# Altium footprint library cricket-node-hw__B.PcbLib: 47 footprints (part 2 of 3)
Each footprint in its own frame and in the unit in brackets; x right, y up, seen from the top. Pads: shape width x height; smd on the part's side, far side on the other; paste and mask are expansions set on the pad; w line width, h text height; cw(c..) or ccw(c..) is an arc to the next point about the centre after c.
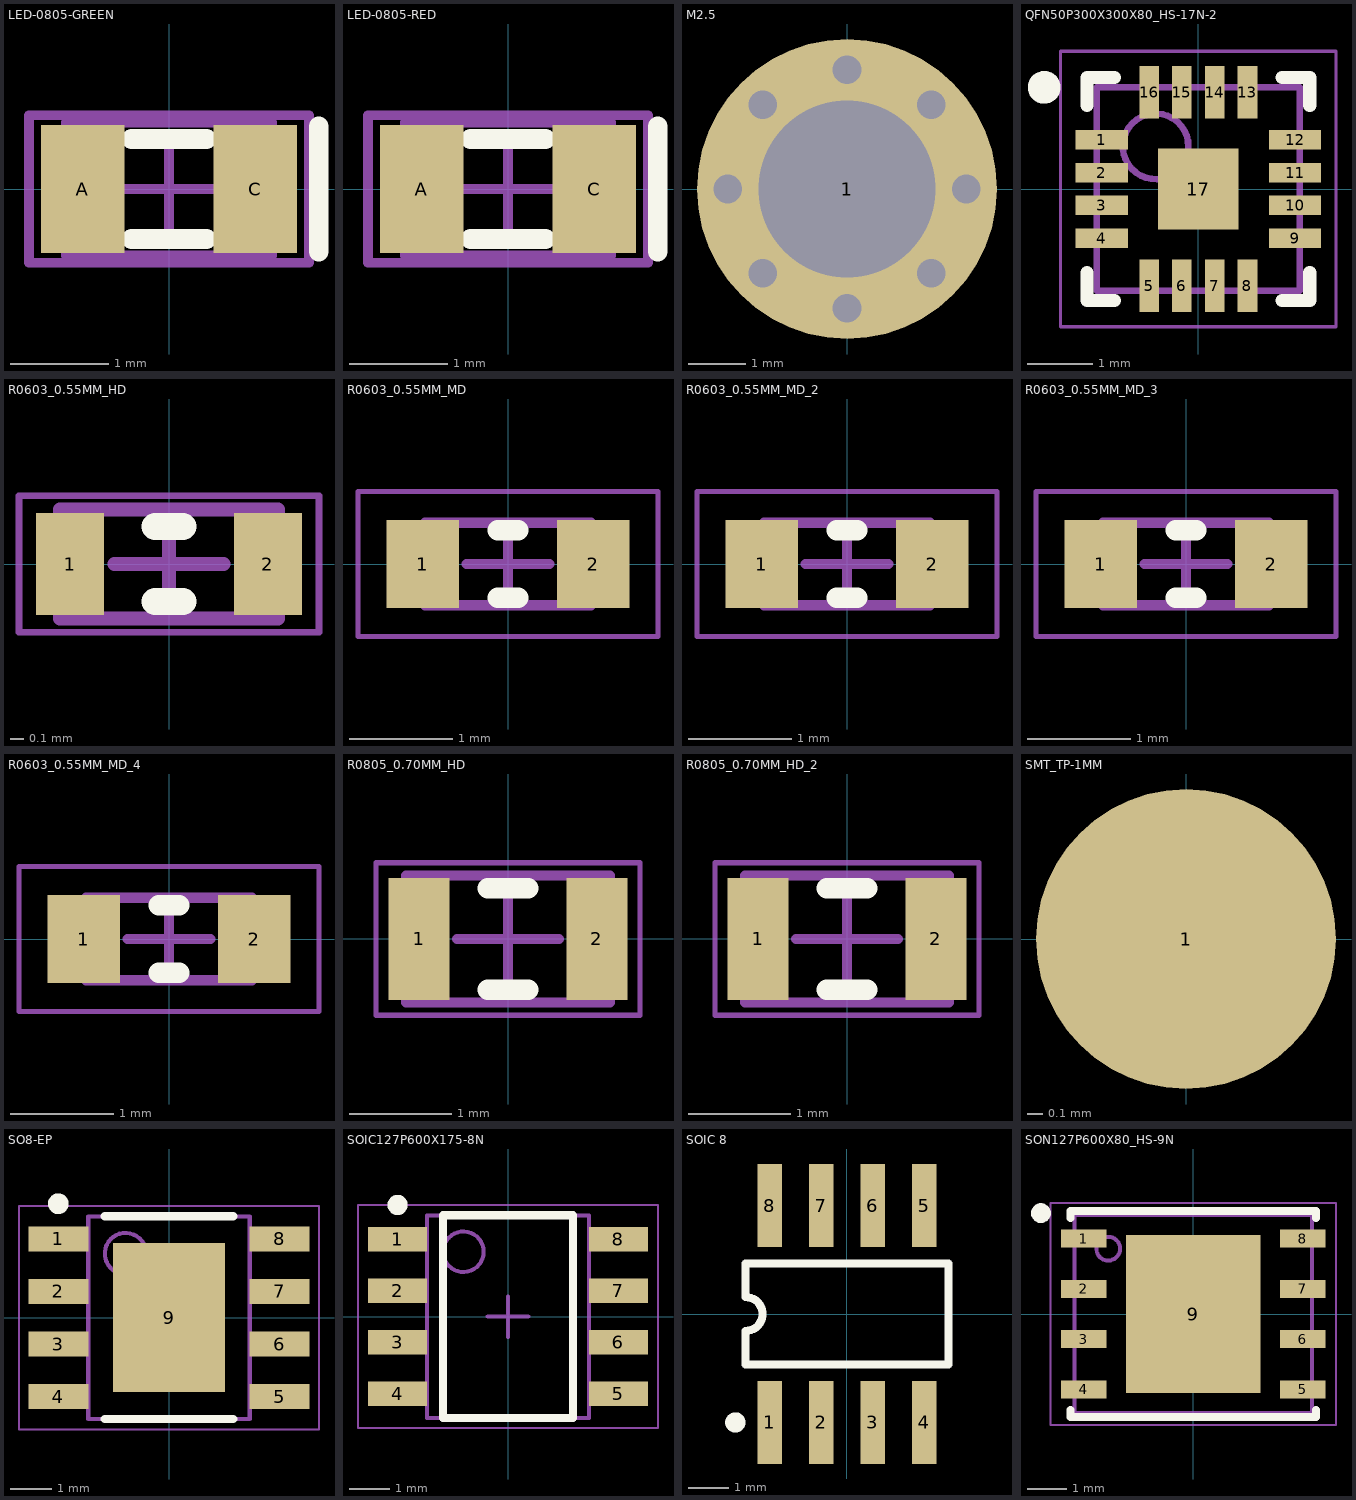
[diagram p1: the footprints below, top view; thin cyan lines are the x and y axes]

## LED-0805-GREEN [mm] "LED_0805"
height 1.1
pads (2):
  rect 0.85x1.3 smd: A(-0.875,0) C(0.875,0)
Top Overlay:
  lines w0.2: -0.381,-0.508 0.381,-0.508 ; -0.381,0.508 0.381,0.508 ; 1.524,-0.635 1.524,0.635
Mechanical 13:
  lines w0.1: -1.05,-0.675 1.05,-0.675 1.05,0.675 -1.05,0.675 -1.05,-0.675
Mechanical 15:
  lines w0.1: -0.5,0 0.5,0 ; 0,-0.5 0,0.5 ; -1.425,-0.75 1.425,-0.75 1.425,0.75 -1.425,0.75 -1.425,-0.75
3D body: height 0.75, standoff 0.25, extent -0.599,-0.624 0.599,0.624
3D body: height 0.26, standoff 0, extent 0.751,-0.624 0.999,0.624
3D body: height 0.26, standoff 0, extent -0.999,-0.624 -0.751,0.624
3D body: height 0.25, standoff 0, extent -0.75,-0.624 0.75,0.624

## LED-0805-RED [mm] "LED_0805"
height 1.1
pads (2):
  rect 0.85x1.3 smd: A(-0.875,0) C(0.875,0)
Top Overlay:
  lines w0.2: -0.381,-0.508 0.381,-0.508 ; -0.381,0.508 0.381,0.508 ; 1.524,-0.635 1.524,0.635
Mechanical 13:
  lines w0.1: -1.05,-0.675 1.05,-0.675 1.05,0.675 -1.05,0.675 -1.05,-0.675
Mechanical 15:
  lines w0.1: -0.5,0 0.5,0 ; 0,-0.5 0,0.5 ; -1.425,-0.75 1.425,-0.75 1.425,0.75 -1.425,0.75 -1.425,-0.75
3D body: height 0.75, standoff 0.25, extent -0.599,-0.624 0.599,0.624
3D body: height 0.26, standoff 0, extent 0.751,-0.624 0.999,0.624
3D body: height 0.26, standoff 0, extent -0.999,-0.624 -0.751,0.624
3D body: height 0.25, standoff 0, extent -0.75,-0.624 0.75,0.624

## M2.5 [mm]
height 1.6
pads (9):
  round 0 hole 0.5: 1(-2.087,0) 1(-1.476,-1.476) 1(-1.476,1.476) 1(0,-2.087) 1(0,2.087) 1(1.476,-1.476) 1(1.476,1.476) 1(2.087,0)
  round 5.25 hole 3.1: 1(0,0)

## QFN50P300X300X80_HS-17N-2 [mm] "QFN, 16-Leads, Body 3.00x3.00mm, Pitch 0.50mm, Thermal Pad 1.23x1.23mm, IPC Medium Density"
height 0.8
pads (17):
  rect 0.8x0.3 smd mask+0.05: 1(-1.475,0.75) 2(-1.475,0.25) 3(-1.475,-0.25) 4(-1.475,-0.75) 9(1.475,-0.75) 10(1.475,-0.25) 11(1.475,0.25) 12(1.475,0.75)
  rect 0.3x0.8 smd mask+0.05: 5(-0.75,-1.475) 6(-0.25,-1.475) 7(0.25,-1.475) 8(0.75,-1.475) 13(0.75,1.475) 14(0.25,1.475) 15(-0.25,1.475) 16(-0.75,1.475)
  rect 1.23x1.23 smd: 17(0,0)
Top Overlay:
  circle w0.25: c-2.35,1.55 r0.125
  lines w0.2: -1.7,-1.275 -1.7,-1.7 -1.275,-1.7 ; -1.7,1.275 -1.7,1.7 -1.275,1.7 ; 1.275,-1.7 1.7,-1.7 1.7,-1.275 ; 1.275,1.7 1.7,1.7 1.7,1.275
Top Courtyard:
  lines w0.05: -2.1,-2.1 -2.1,2.1 2.1,2.1 2.1,-2.1 -2.1,-2.1
  lines w0.1: -0.5,0 0.5,0 ; 0,-0.5 0,0.5
Top Assembly:
  circle w0.1: c-0.65,0.65 r0.5
  lines w0.1: -1.55,-1.55 -1.55,1.55 1.55,1.55 1.55,-1.55 -1.55,-1.55
3D body "QFN50P300X300X80_HS-17N-2.step": height 0.8, standoff 0, extent -1.56,-1.56 1.56,1.56

## R0603_0.55MM_HD [mm] "Resistor 0603 High Density"
height 0.55
pads (2):
  rect 0.5x0.75 smd: 1(-0.725,0) 2(0.725,0)
Top Overlay:
  lines w0.2: -0.1,-0.275 0.1,-0.275 ; -0.1,0.275 0.1,0.275
Mechanical 13:
  lines w0.1: -0.8,-0.4 -0.8,0.4 0.8,0.4 0.8,-0.4 -0.8,-0.4
Mechanical 15:
  lines w0.05: -1.1,-0.5 -1.1,0.5 1.1,0.5 1.1,-0.5 -1.1,-0.5
  lines w0.1: -0.4,0 0.4,0 ; 0,-0.4 0,0.4
3D body "RESC1608X06L.step": height 0.55, standoff 0, extent -0.8,-0.4 0.8,0.4

## R0603_0.55MM_MD [mm] "Resistor 0603 Medium Density"
height 0.55
pads (2):
  rect 0.7x0.85 smd: 1(-0.825,0) 2(0.825,0)
Top Overlay:
  lines w0.2: -0.1,-0.325 0.1,-0.325 ; -0.1,0.325 0.1,0.325
Mechanical 13:
  lines w0.1: -0.8,-0.4 -0.8,0.4 0.8,0.4 0.8,-0.4 -0.8,-0.4
Mechanical 15:
  lines w0.05: -1.45,-0.7 -1.45,0.7 1.45,0.7 1.45,-0.7 -1.45,-0.7
  lines w0.1: -0.4,0 0.4,0 ; 0,-0.4 0,0.4
3D body "RESC1608X06N.step": height 0.55, standoff 0, extent -0.8,-0.4 0.8,0.4

## R0603_0.55MM_MD_2 [mm]
pads (2):
  rect 0.7x0.85 smd: 1(-0.825,0) 2(0.825,0)
Top Overlay:
  lines w0.2: -0.1,-0.325 0.1,-0.325 ; -0.1,0.325 0.1,0.325
Mechanical 13:
  lines w0.1: -0.8,-0.4 0.8,-0.4 0.8,0.4 -0.8,0.4 -0.8,-0.4
Mechanical 15:
  lines w0.05: -1.45,-0.7 1.45,-0.7 1.45,0.7 -1.45,0.7 -1.45,-0.7
  lines w0.1: -0.4,0 0.4,0 ; 0,-0.4 0,0.4
3D body "RESC1608X06N.step": height 0.55, standoff 0, extent -0.8,-0.4 0.8,0.4

## R0603_0.55MM_MD_3 [mm]
pads (2):
  rect 0.7x0.85 smd: 1(-0.825,0) 2(0.825,0)
Top Overlay:
  lines w0.2: -0.1,-0.325 0.1,-0.325 ; -0.1,0.325 0.1,0.325
Mechanical 13:
  lines w0.1: -0.8,-0.4 -0.8,0.4 0.8,0.4 0.8,-0.4 -0.8,-0.4
Mechanical 15:
  lines w0.05: -1.45,-0.7 -1.45,0.7 1.45,0.7 1.45,-0.7 -1.45,-0.7
  lines w0.1: -0.4,0 0.4,0 ; 0,-0.4 0,0.4
3D body "RESC1608X06N.step": height 0.55, standoff 0, extent -0.8,-0.4 0.8,0.4

## R0603_0.55MM_MD_4 [mm]
pads (2):
  rect 0.7x0.85 smd: 1(-0.825,0) 2(0.825,0)
Top Overlay:
  lines w0.2: -0.1,-0.325 0.1,-0.325 ; -0.1,0.325 0.1,0.325
Mechanical 13:
  lines w0.1: -0.8,-0.4 -0.8,0.4 0.8,0.4 0.8,-0.4 -0.8,-0.4
Mechanical 15:
  lines w0.05: -1.45,-0.7 -1.45,0.7 1.45,0.7 1.45,-0.7 -1.45,-0.7
  lines w0.1: -0.4,0 0.4,0 ; 0,-0.4 0,0.4
3D body "RESC1608X06N.step": height 0.55, standoff 0, extent -0.8,-0.4 0.8,0.4

## R0805_0.70MM_HD [mm] "Resistor 0805 High Density"
height 0.7
pads (2):
  rect 0.6x1.2 smd: 1(-0.875,0) 2(0.875,0)
Top Overlay:
  lines w0.2: -0.2,-0.5 0.2,-0.5 ; -0.2,0.5 0.2,0.5
Mechanical 13:
  lines w0.1: -1,-0.625 -1,0.625 1,0.625 1,-0.625 -1,-0.625
Mechanical 15:
  lines w0.05: -1.3,-0.75 -1.3,0.75 1.3,0.75 1.3,-0.75 -1.3,-0.75
  lines w0.1: -0.5,0 0.5,0 ; 0,-0.5 0,0.5
3D body "RESC2012X07L.step": height 0.7, standoff 0, extent -1,-0.625 1,0.625

## R0805_0.70MM_HD_2 [mm]
pads (2):
  rect 0.6x1.2 smd: 1(-0.875,0) 2(0.875,0)
Top Overlay:
  lines w0.2: -0.2,-0.5 0.2,-0.5 ; -0.2,0.5 0.2,0.5
Mechanical 13:
  lines w0.1: -1,-0.625 -1,0.625 1,0.625 1,-0.625 -1,-0.625
Mechanical 15:
  lines w0.05: -1.3,-0.75 -1.3,0.75 1.3,0.75 1.3,-0.75 -1.3,-0.75
  lines w0.1: -0.5,0 0.5,0 ; 0,-0.5 0,0.5
3D body "RESC2012X07L.step": height 0.7, standoff 0, extent -1,-0.625 1,0.625

## SMT_TP-1MM [mm] "1MM SMT Test pad"
height 1.6
pads (1):
  round 1.905 smd paste-0.254: 1(0,0)

## SO8-EP [mm] "SOIC, 8-Leads, Body 4.80x3.80mm, Pitch 1.27mm, Thermal Pad 3.60x2.70mm, IPC Medium Density"
height 1.65
pads (9):
  rect 1.45x0.6 smd mask+0.05: 1(-2.675,1.905) 2(-2.675,0.635) 3(-2.675,-0.635) 4(-2.675,-1.905) 5(2.675,-1.905) 6(2.675,-0.635) 7(2.675,0.635) 8(2.675,1.905)
  rect 2.7x3.6 smd mask+0.05: 9(0,0)
Top Overlay:
  circle w0.25: c-2.675,2.755 r0.125
  lines w0.2: -1.55,-2.45 1.55,-2.45 ; -1.55,2.45 1.55,2.45
Top Solder:
  region: -1.35,1.8 -1.35,-1.8 1.35,-1.8 1.35,1.8
  region: 1.95,1.605 1.95,2.205 3.4,2.205 3.4,1.605
  region: 1.95,0.335 1.95,0.935 3.4,0.935 3.4,0.335
  region: 1.95,-0.335 1.95,-0.935 3.4,-0.935 3.4,-0.335
  region: 1.95,-1.605 1.95,-2.205 3.4,-2.205 3.4,-1.605
  region: -3.4,-1.605 -3.4,-2.205 -1.95,-2.205 -1.95,-1.605
  region: -3.4,-0.335 -3.4,-0.935 -1.95,-0.935 -1.95,-0.335
  region: -3.4,0.335 -3.4,0.935 -1.95,0.935 -1.95,0.335
  region: -3.4,1.605 -3.4,2.205 -1.95,2.205 -1.95,1.605
Top Courtyard:
  lines w0.05: -3.625,-2.7 3.625,-2.7 3.625,2.7 -3.625,2.7 -3.625,-2.7
  lines w0.1: -0.5,0 0.5,0 ; 0,-0.5 0,0.5
Top Assembly:
  circle w0.1: c-1.05,1.55 r0.5
  lines w0.1: -1.95,-2.45 1.95,-2.45 1.95,2.45 -1.95,2.45 -1.95,-2.45
3D body "SO-8EP.STP": height 1.55, standoff 0, extent -3.001,-2.451 3.001,2.451

## SOIC127P600X175-8N [mm] "SOIC, 8-Leads, Body 4.90x3.90mm, Pitch 1.27mm, IPC Medium Density"
height 1.75
pads (8):
  rect 1.45x0.6 smd mask+0.05: 1(-2.725,1.905) 2(-2.725,0.635) 3(-2.725,-0.635) 4(-2.725,-1.905) 5(2.725,-1.905) 6(2.725,-0.635) 7(2.725,0.635) 8(2.725,1.905)
Top Overlay:
  circle w0.25: c-2.725,2.755 r0.125
  lines w0.2: -1.6,-2.5 -1.6,2.5 1.6,2.5 1.6,-2.5 -1.6,-2.5
Top Solder:
  region: -3.45,1.605 -3.45,2.205 -2,2.205 -2,1.605
  region: -3.45,0.335 -3.45,0.935 -2,0.935 -2,0.335
  region: -3.45,-0.335 -3.45,-0.935 -2,-0.935 -2,-0.335
  region: -3.45,-1.605 -3.45,-2.205 -2,-2.205 -2,-1.605
  region: 2,1.605 2,2.205 3.45,2.205 3.45,1.605
  region: 2,0.335 2,0.935 3.45,0.935 3.45,0.335
  region: 2,-0.335 2,-0.935 3.45,-0.935 3.45,-0.335
  region: 2,-1.605 2,-2.205 3.45,-2.205 3.45,-1.605
Top Courtyard:
  lines w0.05: -3.7,-2.75 -3.7,2.75 3.7,2.75 3.7,-2.75 -3.7,-2.75
  lines w0.1: -0.5,0 0.5,0 ; 0,-0.5 0,0.5
Top Assembly:
  circle w0.1: c-1.1,1.6 r0.5
  lines w0.1: -2,-2.5 -2,2.5 2,2.5 2,-2.5 -2,-2.5
3D body "SOIC127P600X175-8N.step": height 1.75, standoff 0, extent -3,-2.5 3,2.5

## SOIC 8 [mm]
height 1.6
pads (8):
  rect 0.6x2.05 smd: 1(-1.905,-2.675) 2(-0.635,-2.675) 3(0.635,-2.675) 4(1.905,-2.675) 5(1.905,2.675) 6(0.635,2.675) 7(-0.635,2.675) 8(-1.905,2.675)
Top Overlay:
  circle w0.25: c-2.755,-2.675 r0.125
  lines w0.2: -2.5,-0.417 -2.5,-1.25 2.5,-1.25 2.5,1.25 -2.5,1.25 -2.5,0.417 ; -2.5,-0.417 ccw(c-2.5,0) -2.5,0.417
3D body "SW3dPS-SOIC8.step": height 1.88, standoff -0.03, extent -2.489,-3.195 2.515,3.144

## SON127P600X80_HS-9N [mm] "SON, 8-Leads, Body 5.00x6.00mm, Pitch 1.27mm, Thermal Pad 4.00x3.40mm, IPC Medium Density"
height 0.8
pads (9):
  rect 1.15x0.45 smd: 1(-2.77,1.905) 2(-2.77,0.635) 3(-2.77,-0.635) 4(-2.77,-1.905) 5(2.77,-1.905) 6(2.77,-0.635) 7(2.77,0.635) 8(2.77,1.905)
  rect 3.4x4 smd paste-1.7: 9(0,0)
Top Overlay:
  circle w0.25: c-3.85,2.55 r0.125
  lines w0.2: -3.1,-2.43 -3.1,-2.6 3.1,-2.6 3.1,-2.43 ; -3.1,2.43 -3.1,2.6 3.1,2.6 3.1,2.43
Top Paste:
  rectangle: -1.595,0.768 -0.665,1.898
  rectangle: -1.595,-0.562 -0.665,0.568
  rectangle: -1.595,-1.898 -0.665,-0.768
  rectangle: -0.465,0.768 0.465,1.898
  rectangle: -0.465,-0.562 0.465,0.568
  rectangle: -0.465,-1.898 0.465,-0.768
  rectangle: 0.665,0.768 1.595,1.898
  rectangle: 0.665,-0.568 1.595,0.562
  rectangle: 0.668,-1.896 1.598,-0.766
Mechanical 7:
  circle w0.1: c-2.15,1.65 r0.3
  lines w0.1: -3,-2.5 -3,2.5 3,2.5 3,-2.5 -3,-2.5
  text ".Designator" at -0.5,-0.175 h0.38
Mechanical 15:
  lines w0.05: -3.605,-2.8 -3.605,2.8 3.605,2.8 3.605,-2.8 -3.605,-2.8
  lines w0.1: -0.5,0 0.5,0 ; 0,-0.5 0,0.5
3D body "SON127P600X80_HS-9N.step": height 0.8, standoff 0, extent -3.051,-2.55 3.051,2.55